# Altium schematic symbol library 10uF Capacitor.SchLib: 1 symbol
Pins are listed as number, name and electrical type; pins without a type are passive.

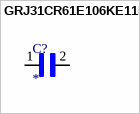
[diagram p0: symbol GRJ31CR61E106KE11L]

## GRJ31CR61E106KE11L
designator C?
CAP CER 10UF 25V X5R 1206; MP: GRJ31CR61E106KE11L; Package: None; Price: None; Value: *; Availability: Unavailable
footprint CAPC3216X190N
pins: 1, 2